# EAGLE library part HTLORA-MODULE (library htlora-schematic)
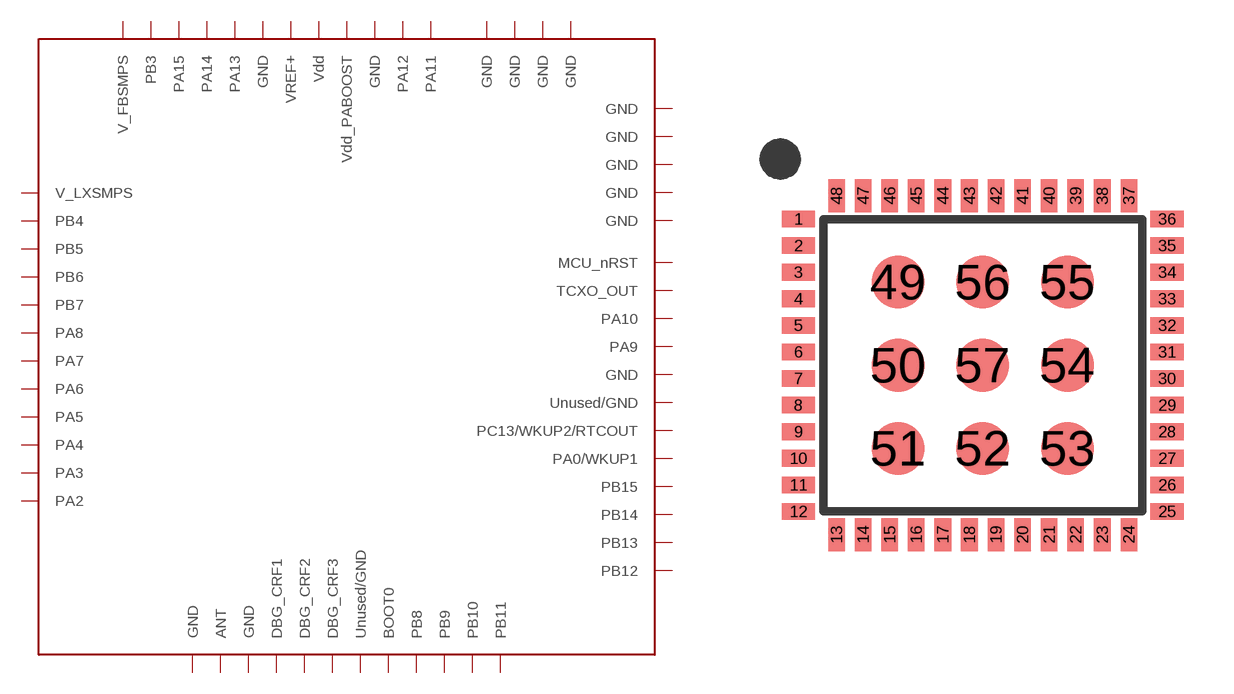
[diagram p0: symbol with the pads of LGA-HTLoRa; footprint LGA-HTLoRa]

Designator prefix U

## HTLORA-MODULE  [LGA-HTLoRa]
1  PA11
2  PA12
3  GND  pwr
4  Vdd_PABOOST  pwr
5  Vdd  pwr
6  VREF+  pwr
7  GND  pwr
8  PA13
9  PA14
10  PA15
11  PB3
12  V_FBSMPS
13  V_LXSMPS
14  PB4
15  PB5
16  PB6
17  PB7
18  PA8
19  PA7
20  PA6
21  PA5
22  PA4
23  PA3
24  PA2
25  GND  pwr
26  ANT  pas
27  GND  pwr
28  DBG_CRF1
29  DBG_CRF2
30  DBG_CRF3
31  Unused/GND
32  BOOT0
33  PB8
34  PB9
35  PB10
36  PB11
37  PB12
38  PB13
39  PB14
40  PB15
41  PA0/WKUP1
42  PC13/WKUP2/RTCOUT
43  Unused/GND
44  GND  pwr
45  PA9
46  PA10
47  TCXO_OUT
48  MCU_nRST  pwr
49  GND  pwr
50  GND  pwr
51  GND  pwr
52  GND  pwr
53  GND  pwr
54  GND  pwr
55  GND  pwr
56  GND  pwr
57  GND  pwr

## Footprint LGA-HTLoRa (pad centres in mm)
smd 1 x 0.5: 1 -5.55,4.4; 2 -5.55,3.6; 3 -5.55,2.8; 4 -5.55,2; 5 -5.55,1.2; 6 -5.55,0.4; 7 -5.55,-0.4; 8 -5.55,-1.2; 9 -5.55,-2; 10 -5.55,-2.8; 11 -5.55,-3.6; 12 -5.55,-4.4; 25 5.55,-4.4; 26 5.55,-3.6; 27 5.55,-2.8; 28 5.55,-2; 29 5.55,-1.2; 30 5.55,-0.4; 31 5.55,0.4; 32 5.55,1.2; 33 5.55,2; 34 5.55,2.8; 35 5.55,3.6; 36 5.55,4.4
smd 0.5 x 1: 13 -4.4,-5.1; 14 -3.6,-5.1; 15 -2.8,-5.1; 16 -2,-5.1; 17 -1.2,-5.1; 18 -0.4,-5.1; 19 0.4,-5.1; 20 1.2,-5.1; 21 2,-5.1; 22 2.8,-5.1; 23 3.6,-5.1; 24 4.4,-5.1; 37 4.4,5.1; 38 3.6,5.1; 39 2.8,5.1; 40 2,5.1; 41 1.2,5.1; 42 0.4,5.1; 43 -0.4,5.1; 44 -1.2,5.1; 45 -2,5.1; 46 -2.8,5.1; 47 -3.6,5.1; 48 -4.4,5.1
smd 1.6 x 1.6: 49 -2.55,2.5; 50 -2.55,0; 51 -2.55,-2.5; 52 0,-2.5; 53 2.55,-2.5; 54 2.55,0; 55 2.55,2.5; 56 0,2.5; 57 0,0